# Altium schematic symbol library PCA9622DR.SchLib: 1 symbol
Pins are listed as number, name and electrical type; pins without a type are passive.

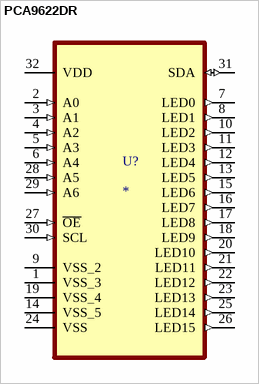
[diagram p0: symbol PCA9622DR]

## PCA9622DR
designator U?
16-bit Fm+ I2C-bus 100 mA 40 V LED driver; MP: PCA9622DR; Package: None; Price: None; Value: *; Availability: Unavailable
footprint SOP65P810X110-32N
pins: 1 VSS_3, 2 A0 (in), 3 A1 (in), 4 A2 (in), 5 A3 (in), 6 A4 (in), 7 LED0 (out), 8 LED1 (out), 9 VSS_2, 10 LED2 (out), 11 LED3 (out), 12 LED4 (out), 13 LED5 (out), 14 VSS_5, 15 LED6 (out), 16 LED7 (out), 17 LED8 (out), 18 LED9 (out), 19 VSS_4, 20 LED10 (out), 21 LED11 (out), 22 LED12 (out), 23 LED13 (out), 24 VSS, 25 LED14 (out), 26 LED15 (out), 27 ~{OE} (in), 28 A5 (in), 29 A6 (in), 30 SCL (in), 31 SDA (io), 32 VDD (power)